# Altium footprint library Pcb_Components.PcbLib: 31 footprints (part 2 of 2)
Each footprint in its own frame and in the unit in brackets; x right, y up, seen from the top. Pads: shape width x height; smd on the part's side, far side on the other; paste and mask are expansions set on the pad; w line width, h text height; cw(c..) or ccw(c..) is an arc to the next point about the centre after c.
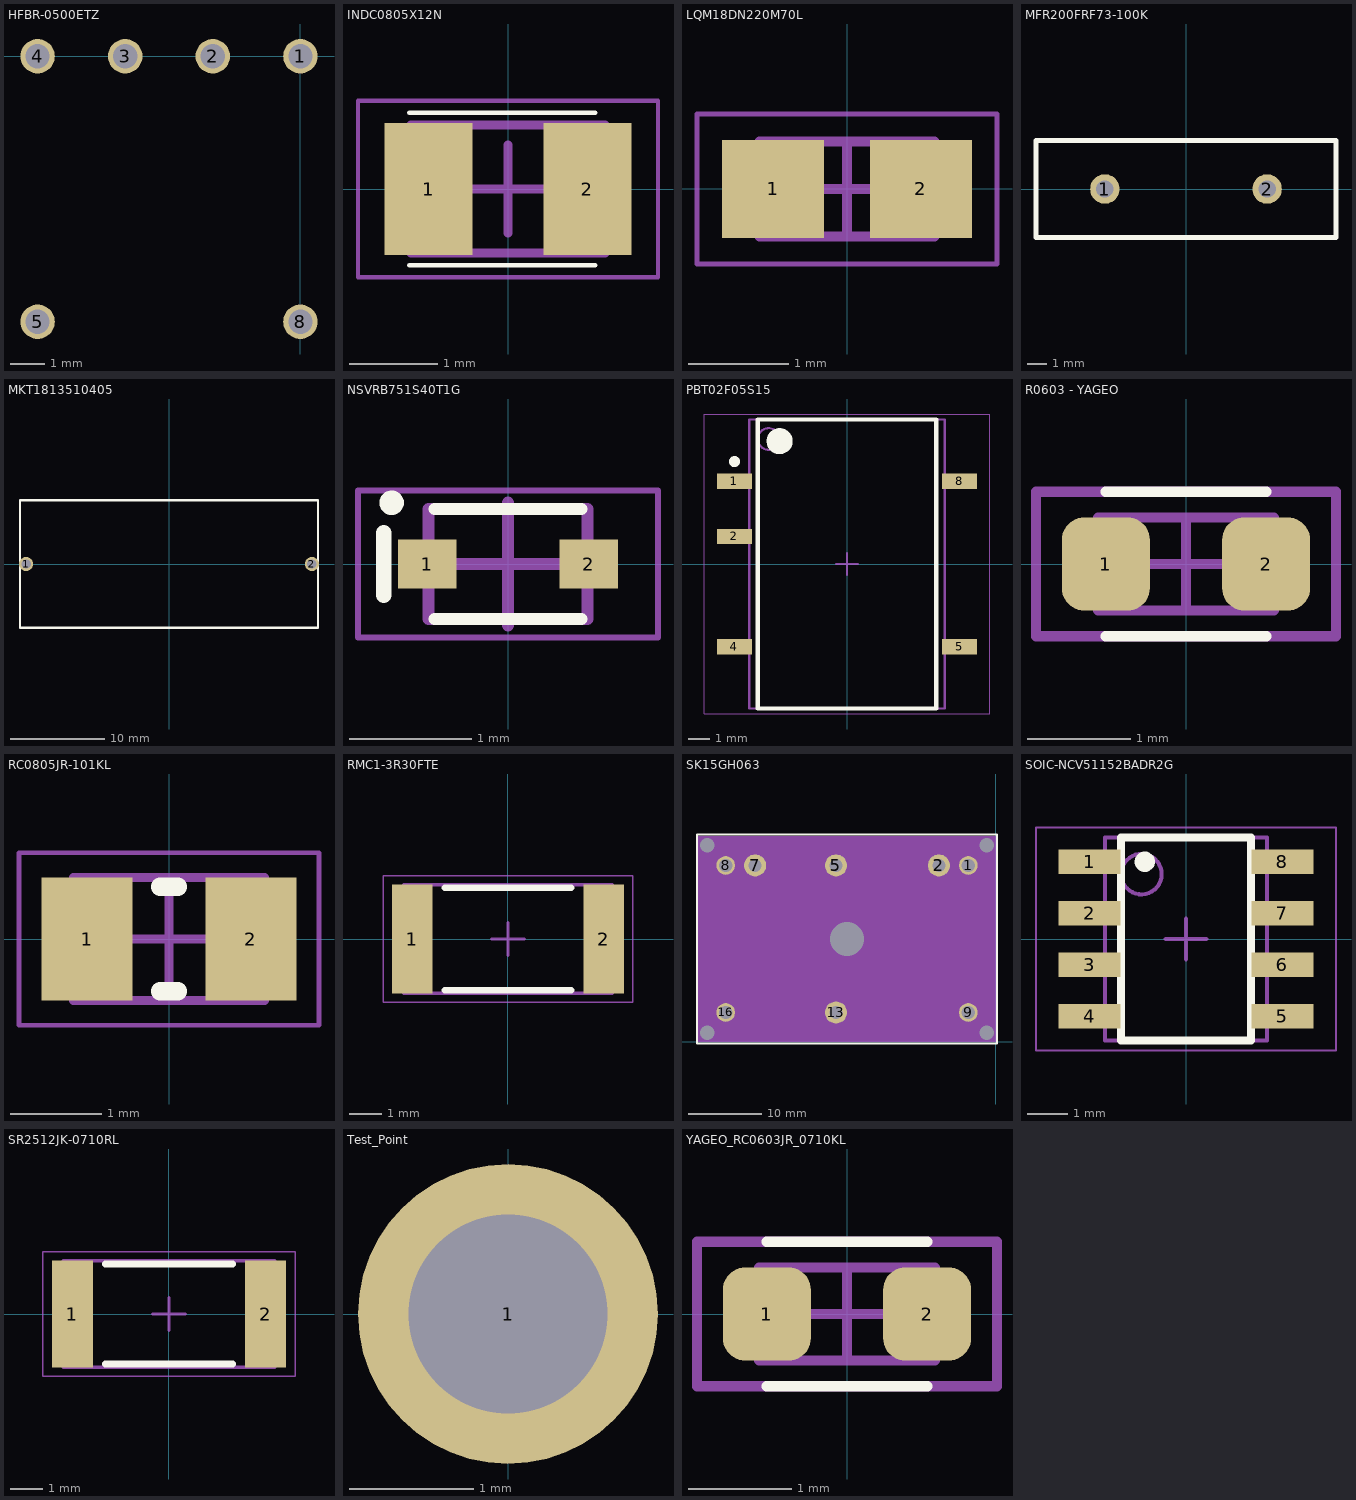
[diagram p1: the footprints below, top view; thin cyan lines are the x and y axes]

## HFBR-0500ETZ [mm]
pads (6):
  round 1 hole 0.7: 1(0,0) 2(-2.54,0) 3(-5.08,0) 4(-7.62,0) 5(-7.62,-7.7) 8(0,-7.7)

## INDC0805X12N [mm] "Chip Inductor, 2-Leads, Body 2,00x1,25mm, IPC Medium Density"
height 1.25
pads (2):
  rect 1x1.5 smd: 1(-0.9,0) 2(0.9,0)
Top Overlay:
  lines w0.051: -1.118,-0.864 0.991,-0.864 ; -1.118,0.864 0.991,0.864
Top Courtyard:
  lines w0.05: -1.7,-1 -1.7,1 1.7,1 1.7,-1 -1.7,-1
  lines w0.1: -0.5,0 0.5,0 ; 0,-0.5 0,0.5
Mechanical 13:
  lines w0.1: -1.1,-0.725 -1.1,0.725 1.1,0.725 1.1,-0.725 -1.1,-0.725
3D body "INDC0805X12N.step": height 1.25, standoff 0, extent -1.1,-0.725 1.1,0.725

## LQM18DN220M70L [mm] "Chip Inductor, 2-Leads, Body 1,60x0,80mm, IPC Medium Density"
height 0.95
pads (2):
  rect 1.02x0.98 smd: 1(-0.74,0) 2(0.74,0)
Mechanical 13:
  lines w0.1: -0.875,-0.475 -0.875,0.475 0.875,0.475 0.875,-0.475 -0.875,-0.475
Mechanical 15:
  lines w0.05: -1.5,-0.75 -1.5,0.75 1.5,0.75 1.5,-0.75 -1.5,-0.75
  lines w0.1: -0.475,0 0.475,0 ; 0,-0.475 0,0.475
3D body "LQM18DN220M70L.step": height 0.95, standoff 0, extent -0.875,-0.475 0.875,0.475

## MFR200FRF73-100K [mil]
pads (2):
  round 60 hole 35.43: 1(-165,0) 2(165,0)
Top Overlay:
  lines w10: -305.12,-98.43 305.12,-98.43 305.12,98.43 -305.12,98.43 -305.12,-98.43

## MKT1813510405 [mm] "Capacitores de películas 1uF 400V 10%"
pads (2):
  round 1.5 hole 1: 1(-15.105,0) 2(15.105,0)
Top Overlay:
  lines w0.254: -15.748,-6.756 -15.748,6.756 15.748,6.756 15.748,-6.756 -15.748,-6.756

## NSVRB751S40T1G [mm] "SODFL, 2-Leads, Body 0,80x1,60mm, IPC Medium Density"
height 0.7
pads (2):
  rect 0.48x0.4 smd: 1(-0.66,0) 2(0.66,0)
Top Overlay:
  circle w0.1: c-0.95,0.5 r0.05
  lines w0.1: -0.6,-0.45 0.6,-0.45 ; -0.6,0.45 0.6,0.45
  lines w0.127: -1.016,-0.254 -1.016,0.254
Mechanical 13:
  lines w0.1: -0.65,-0.45 0.65,-0.45 0.65,0.45 -0.65,0.45 -0.65,-0.45
Mechanical 15:
  lines w0.05: -1.225,-0.6 1.225,-0.6 1.225,0.6 -1.225,0.6 -1.225,-0.6
  lines w0.1: -0.5,0 0.5,0 ; 0,-0.5 0,0.5
3D body "NSVRB751S40T1G.step": height 0.7, standoff 0, extent -0.8,-0.45 0.8,0.45

## PBT02F05S15 [mm] "SOP, 8-Leads, Body 12,75x8,50mm, Pitch 2,54mm, IPC Medium Density"
height 9
pads (5):
  rect 1.6x0.7 smd: 1(-5.175,3.81) 2(-5.175,1.27) 4(-5.175,-3.81) 5(5.175,-3.81) 8(5.175,3.81)
Top Overlay:
  circle w0.25: c-5.175,4.71 r0.125
  circle w0.6: c-3.1,5.65 r0.3
  lines w0.2: -4.1,-6.65 -4.1,6.65 4.1,6.65 4.1,-6.65 -4.1,-6.65
Mechanical 13:
  circle w0.1: c-3.6,5.75 r0.5
  lines w0.1: -4.5,-6.65 -4.5,6.65 4.5,6.65 4.5,-6.65 -4.5,-6.65
Mechanical 15:
  lines w0.05: -6.575,-6.9 -6.575,6.9 6.575,6.9 6.575,-6.9 -6.575,-6.9
  lines w0.1: -0.5,0 0.5,0 ; 0,-0.5 0,0.5
3D body: height 9, standoff 0.05, extent -4.5,-6.65 4.5,6.65

## R0603 - YAGEO [mm]
pads (2):
  rrect50% 0.85x0.9 smd: 1(-0.775,0) 2(0.775,0)
Top Overlay:
  lines w0.1: -0.775,-0.7 0.775,-0.7 ; -0.775,0.7 0.775,0.7
Top 3D Body:
  lines w0.1: -0.85,-0.45 -0.85,0.45 0.85,0.45 0.85,-0.45 -0.85,-0.45
Top Courtyard:
  lines w0.1: -0.45,0 0.45,0 ; 0,-0.45 0,0.45 ; -1.45,-0.7 -1.45,0.7 1.45,0.7 1.45,-0.7 -1.45,-0.7
Top Designator:
  text ".Designator" at -1.262,-0.096 h0.25
3D body "R0603.step": height 0.55, standoff 0, extent -0.85,-0.45 0.85,0.45

## RC0805JR-101KL [mm] "Chip Resistor, 2-Leads, Body 2,00x1,25mm, IPC Medium Density"
height 0.6
pads (2):
  rect 1x1.35 smd: 1(-0.9,0) 2(0.9,0)
Top Overlay:
  lines w0.2: -0.1,-0.575 0.1,-0.575 ; -0.1,0.575 0.1,0.575
Mechanical 13:
  lines w0.1: -1.05,-0.675 -1.05,0.675 1.05,0.675 1.05,-0.675 -1.05,-0.675
Mechanical 15:
  lines w0.05: -1.65,-0.95 -1.65,0.95 1.65,0.95 1.65,-0.95 -1.65,-0.95
  lines w0.1: -0.5,0 0.5,0 ; 0,-0.5 0,0.5
3D body "RC0805JR-101KL.step": height 0.6, standoff 0, extent -1.05,-0.675 1.05,0.675

## RMC1-3R30FTE [mm] "Chip Resistor, 2-Leads, Body 6,35x3,20mm, IPC Medium Density"
height 0.7
pads (2):
  rect 1.25x3.35 smd: 1(-2.95,0) 2(2.95,0)
Top Overlay:
  lines w0.2: -1.95,-1.575 1.95,-1.575 ; -1.95,1.575 1.95,1.575
Mechanical 13:
  lines w0.1: -3.225,-1.675 -3.225,1.675 3.225,1.675 3.225,-1.675 -3.225,-1.675
Mechanical 15:
  lines w0.05: -3.85,-1.95 -3.85,1.95 3.85,1.95 3.85,-1.95 -3.85,-1.95
  lines w0.1: -0.5,0 0.5,0 ; 0,-0.5 0,0.5
3D body "RMC1-3R30FTE.step": height 0.7, standoff 0, extent -3.225,-1.675 3.225,1.675

## SK15GH063 [mm]
pads (13):
  round 2.54 hole 1.8: 1(-3.75,24) 8(-36.75,24) 9(-3.75,4) 16(-36.75,4)
  round 2.997 hole 1.8: 2(-7.75,24) 5(-21.75,24) 7(-32.75,24) 13(-21.75,4)
  round 0.127 hole 2 unplated: 9(-39.25,1.25) 9(-39.25,26.75) 9(-1.25,1.25) 9(-1.25,26.75)
  round 0.127 hole 4.6 unplated: 9(-20.25,14)
Top Overlay:
  lines w0.254: -40.653,-0.203 -40.653,28.194 0.152,28.194 0.152,-0.203 -40.653,-0.203
Mechanical 1:
  region: 0,28 -40.5,28 -40.5,0 0,0

## SOIC-NCV51152BADR2G [mm] "Soic Gate Driver Insolated, Single channel, Gate driver"
height 1.75
pads (8):
  rect 1.52x0.6 smd: 1(-2.38,1.905) 2(-2.38,0.635) 3(-2.38,-0.635) 4(-2.38,-1.905) 5(2.38,-1.905) 6(2.38,-0.635) 7(2.38,0.635) 8(2.38,1.905)
Top Overlay:
  circle w0.25: c-1.016,1.905 r0.125
  lines w0.2: -1.6,-2.5 1.6,-2.5 1.6,2.5 -1.6,2.5 -1.6,-2.5
Mechanical 13:
  circle w0.1: c-1.1,1.6 r0.5
  lines w0.1: -2,-2.5 2,-2.5 2,2.5 -2,2.5 -2,-2.5
Mechanical 15:
  lines w0.05: -3.7,-2.75 -3.7,2.75 3.7,2.75 3.7,-2.75 -3.7,-2.75
  lines w0.1: -0.5,0 0.5,0 ; 0,-0.5 0,0.5
3D body "SOIC-NCV51152BADR2G.step": height 1.75, standoff 0, extent -3,-2.5 3,2.5

## SR2512JK-0710RL [mm] "Chip Resistor, 2-Leads, Body 6,35x3,10mm, IPC Medium Density"
height 0.65
pads (2):
  rect 1.25x3.25 smd: 1(-2.95,0) 2(2.95,0)
Top Overlay:
  lines w0.2: -1.95,-1.525 1.95,-1.525 ; -1.95,1.525 1.95,1.525
Mechanical 13:
  lines w0.1: -3.225,-1.625 -3.225,1.625 3.225,1.625 3.225,-1.625 -3.225,-1.625
Mechanical 15:
  lines w0.05: -3.85,-1.9 -3.85,1.9 3.85,1.9 3.85,-1.9 -3.85,-1.9
  lines w0.1: -0.5,0 0.5,0 ; 0,-0.5 0,0.5
3D body "RESC6431X06N.step": height 0.65, standoff 0, extent -3.225,-1.625 3.225,1.625

## Test_Point [mil]
pads (1):
  round 95 hole 63: 1(0,0)

## YAGEO_RC0603JR_0710KL [mm]
pads (2):
  rrect50% 0.85x0.9 smd: 1(-0.775,0) 2(0.775,0)
Top Overlay:
  lines w0.1: -0.775,-0.7 0.775,-0.7 ; -0.775,0.7 0.775,0.7
Top 3D Body:
  lines w0.1: -0.85,-0.45 -0.85,0.45 0.85,0.45 0.85,-0.45 -0.85,-0.45
Top Courtyard:
  lines w0.1: -0.45,0 0.45,0 ; 0,-0.45 0,0.45 ; -1.45,-0.7 -1.45,0.7 1.45,0.7 1.45,-0.7 -1.45,-0.7
Top Designator:
  text ".Designator" at -1.262,-0.096 h0.25
3D body "R0603.step": height 0.55, standoff 0, extent -0.85,-0.45 0.85,0.45